# EAGLE library part 93C46 (library misc)
Microchip: 93AA46A/B/C, 93LC46A/B/C, 93C46A/B/C
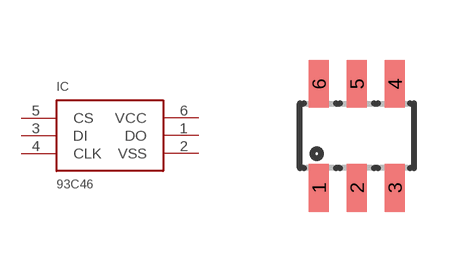
[diagram p1: symbol with the pads of SO23-6; footprint SO23-6]

Designator prefix IC

## 93C46-SO23-6  [SO23-6]
1  DO
2  VSS
3  DI
4  CLK
5  CS
6  VCC

## Footprint SO23-6 (pad centres in mm)
smd 0.5 x 1.2: 1 -0.95,-1.3; 2 0,-1.3; 3 0.95,-1.3; 4 0.95,1.3; 5 0,1.3; 6 -0.95,1.3